# Altium schematic symbol library NUP2105L ESD Protection Diode.SchLib: 1 symbol
Pins are listed as number, name and electrical type; pins without a type are passive.

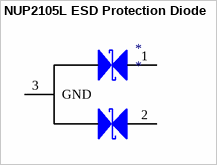
[diagram p0: symbol NUP2105L ESD Protection Diode]

## NUP2105L ESD Protection Diode
designator *
Dual CAN Line Bus Protector
pins: 1, 2, 3 GND